# Altium schematic symbol library kmilo17pet-NSC_Switcher.SchLib: 2226 symbols (part 51 of 59)
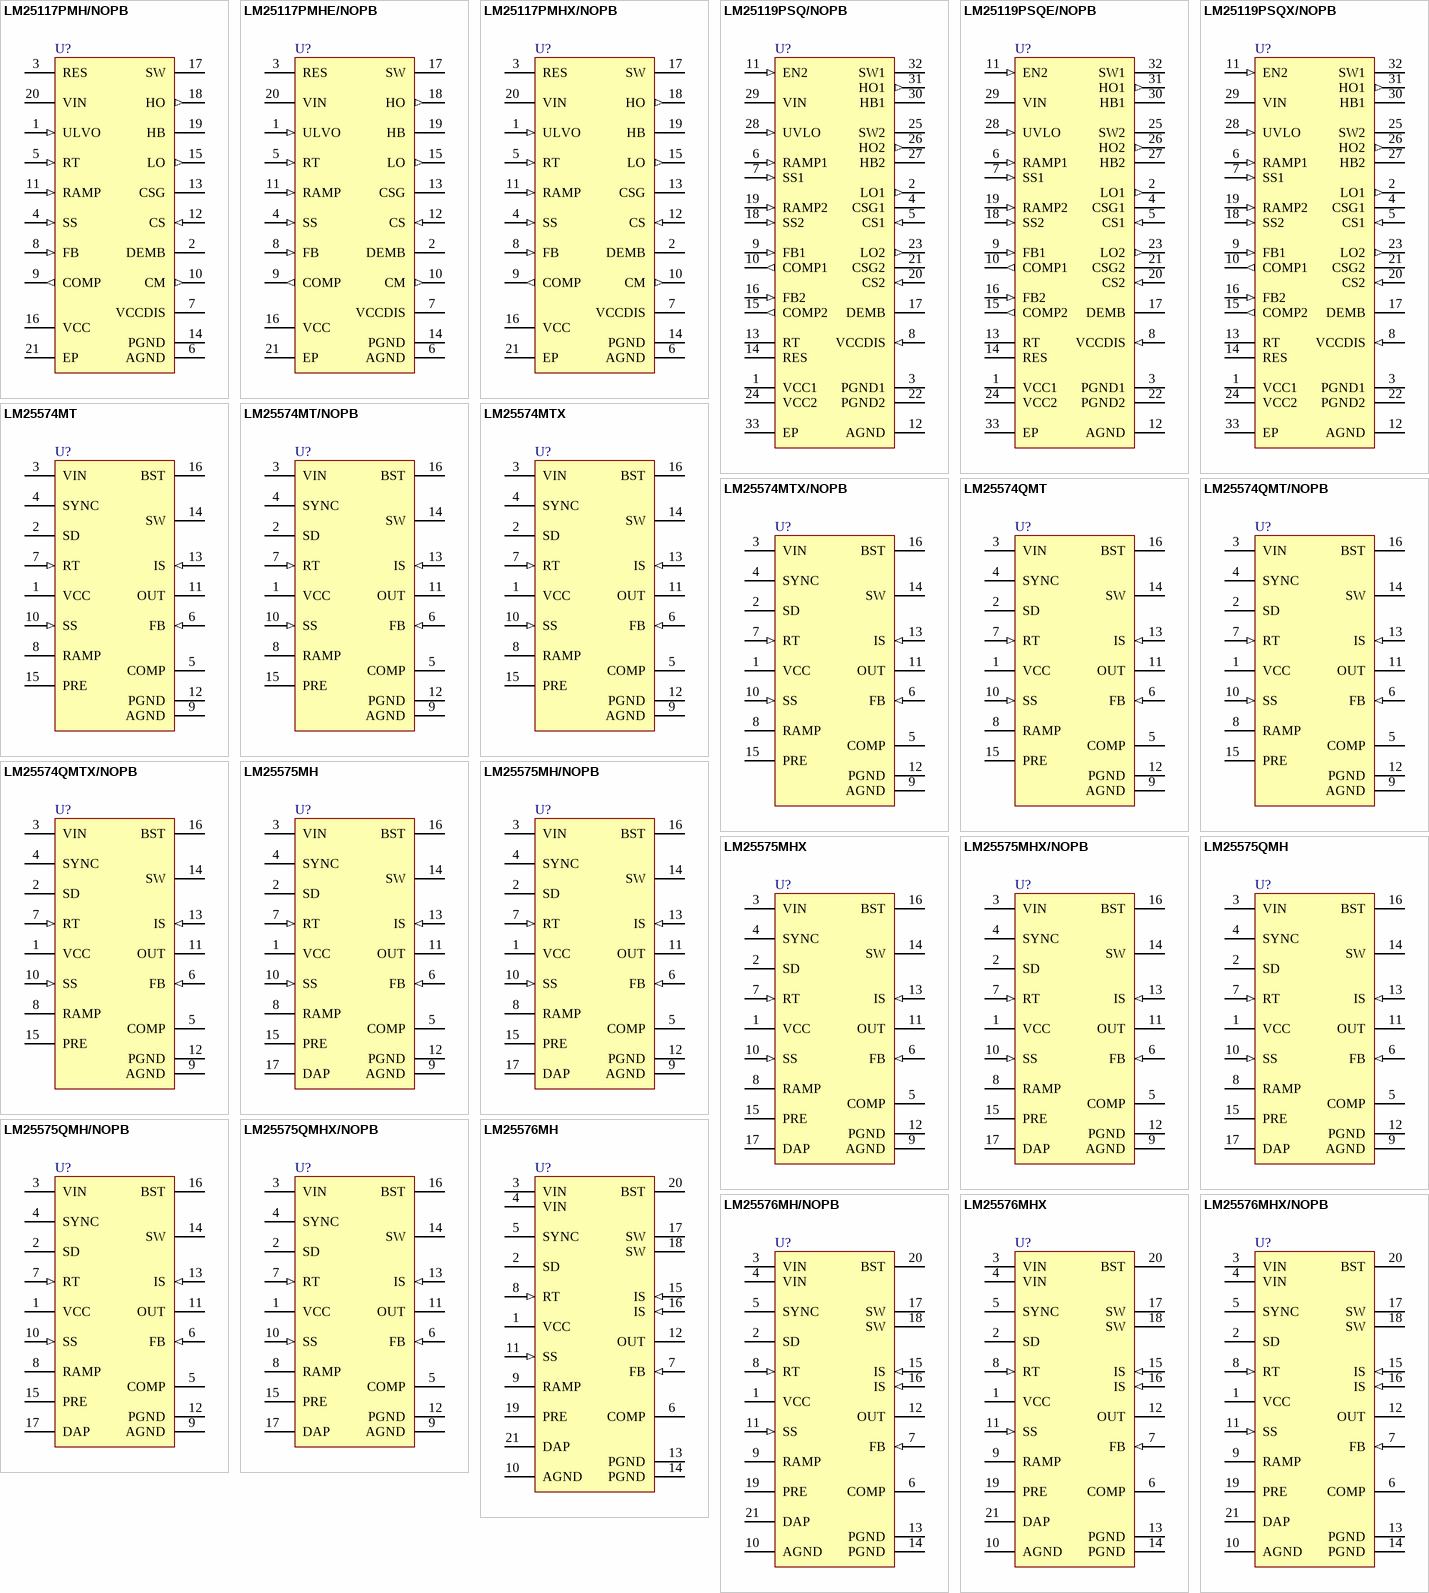
[diagram p119: symbols LM25117PMH/NOPB to LM25576MHX/NOPB]

## LM25574MTX/NOPB
designator U?
SIMPLE SWITCHER® 42V, 0.5A Step-Down Switching Regulator, 16-pin TSSOP, Pb-Free; PartNumber: LM25574MTX/NOPB; Manufacturer: National Semiconductor; PackageTopMarking: NSUZXYTT*L25574*MT; PowerWise: Y; DatasheetVersion: Mar-2009; PackageVersion: revD, Jun-2003; PackageReference: MTC16; PackageDescription: Molded TSSOP, Jedec, 5 x 4.4 x 0.9mm Body, 16 Lead, 0.65mm Pitch; RoHS: Y; PinCount: 16; CompType: Switcher; High-Reliability: Y; Code_JEDEC: MO-153-AB; ComponentLink1Description: Manufacturer URL; ComponentLink1URL: http://www.national.com/; ComponentLink2Description: LM25574 Datasheet; ComponentLink2URL: http://www.national.com/ds/LM/LM25574.pdf; ComponentLink3Description: LM25574 Web Page; ComponentLink3URL: http://www.national.com/pf/LM/LM25574.html; ComponentLink4Description: MTC16 Package Page; ComponentLink4URL: http://www.national.com/packaging/folders/mtc16.html
footprint MTC16_N (TSOP, 16-Leads, Body 5x4.4mm, Pitch 0.65mm, IPC Medium Density)
footprint MTC16_L (TSOP, 16-Leads, Body 5x4.4mm, Pitch 0.65mm, IPC High Density)
footprint MTC16_M (TSOP, 16-Leads, Body 5x4.4mm, Pitch 0.65mm, IPC Low Density)
pins: 1 VCC (power), 2 SD, 3 VIN (power), 4 SYNC, 5 COMP, 6 FB (in), 7 RT (in), 8 RAMP, 9 AGND (power), 10 SS (in), 11 OUT (power), 12 PGND (power), 13 IS (in), 14 SW (power), 15 PRE (oc), 16 BST

## LM25574QMT
designator U?
SIMPLE SWITCHER® 42V, 0.5A Step-Down Switching Regulator, 16-pin TSSOP; PartNumber: LM25574QMT; Manufacturer: National Semiconductor; PackageTopMarking: NSUZXYTT*L25574*QMT; PowerWise: N; High-Reliability: Y; DatasheetVersion: Mar-2009; PackageVersion: revD, Jun-2003; PackageReference: MTC16; PackageDescription: Molded TSSOP, Jedec, 5 x 4.4 x 0.9mm Body, 16 Lead, 0.65mm Pitch; RoHS: Y; PinCount: 16; CompType: Switcher; Code_JEDEC: MO-153-AB; ComponentLink1Description: Manufacturer URL; ComponentLink1URL: http://www.national.com/; ComponentLink2Description: LM25574 Datasheet; ComponentLink2URL: http://www.national.com/ds/LM/LM25574.pdf; ComponentLink3Description: LM25574 Web Page; ComponentLink3URL: http://www.national.com/pf/LM/LM25574.html; ComponentLink4Description: MTC16 Package Page; ComponentLink4URL: http://www.national.com/packaging/folders/mtc16.html
footprint MTC16_N (TSOP, 16-Leads, Body 5x4.4mm, Pitch 0.65mm, IPC Medium Density)
footprint MTC16_L (TSOP, 16-Leads, Body 5x4.4mm, Pitch 0.65mm, IPC High Density)
footprint MTC16_M (TSOP, 16-Leads, Body 5x4.4mm, Pitch 0.65mm, IPC Low Density)
pins: 1 VCC (power), 2 SD, 3 VIN (power), 4 SYNC, 5 COMP, 6 FB (in), 7 RT (in), 8 RAMP, 9 AGND (power), 10 SS (in), 11 OUT (power), 12 PGND (power), 13 IS (in), 14 SW (power), 15 PRE (oc), 16 BST

## LM25574QMT/NOPB
designator U?
SIMPLE SWITCHER® 42V, 0.5A Step-Down Switching Regulator, 16-pin TSSOP, Pb-Free; PartNumber: LM25574QMT/NOPB; Manufacturer: National Semiconductor; PackageTopMarking: NSUZXYTT*L25574*QMT; PowerWise: N; High-Reliability: Y; DatasheetVersion: Mar-2009; PackageVersion: revD, Jun-2003; PackageReference: MTC16; PackageDescription: Molded TSSOP, Jedec, 5 x 4.4 x 0.9mm Body, 16 Lead, 0.65mm Pitch; RoHS: Y; PinCount: 16; CompType: Switcher; Code_JEDEC: MO-153-AB; ComponentLink1Description: Manufacturer URL; ComponentLink1URL: http://www.national.com/; ComponentLink2Description: LM25574 Datasheet; ComponentLink2URL: http://www.national.com/ds/LM/LM25574.pdf; ComponentLink3Description: LM25574 Web Page; ComponentLink3URL: http://www.national.com/pf/LM/LM25574.html; ComponentLink4Description: MTC16 Package Page; ComponentLink4URL: http://www.national.com/packaging/folders/mtc16.html
footprint MTC16_N (TSOP, 16-Leads, Body 5x4.4mm, Pitch 0.65mm, IPC Medium Density)
footprint MTC16_L (TSOP, 16-Leads, Body 5x4.4mm, Pitch 0.65mm, IPC High Density)
footprint MTC16_M (TSOP, 16-Leads, Body 5x4.4mm, Pitch 0.65mm, IPC Low Density)
pins: 1 VCC (power), 2 SD, 3 VIN (power), 4 SYNC, 5 COMP, 6 FB (in), 7 RT (in), 8 RAMP, 9 AGND (power), 10 SS (in), 11 OUT (power), 12 PGND (power), 13 IS (in), 14 SW (power), 15 PRE (oc), 16 BST

## LM25574QMTX/NOPB
designator U?
SIMPLE SWITCHER® 42V, 0.5A Step-Down Switching Regulator, 16-pin TSSOP, Pb-Free; PartNumber: LM25574QMTX/NOPB; Manufacturer: National Semiconductor; PackageTopMarking: NSUZXYTT*L25574*QMT; PowerWise: N; High-Reliability: Y; DatasheetVersion: Mar-2009; PackageVersion: revD, Jun-2003; PackageReference: MTC16; PackageDescription: Molded TSSOP, Jedec, 5 x 4.4 x 0.9mm Body, 16 Lead, 0.65mm Pitch; RoHS: Y; PinCount: 16; CompType: Switcher; Code_JEDEC: MO-153-AB; ComponentLink1Description: Manufacturer URL; ComponentLink1URL: http://www.national.com/; ComponentLink2Description: LM25574 Datasheet; ComponentLink2URL: http://www.national.com/ds/LM/LM25574.pdf; ComponentLink3Description: LM25574 Web Page; ComponentLink3URL: http://www.national.com/pf/LM/LM25574.html; ComponentLink4Description: MTC16 Package Page; ComponentLink4URL: http://www.national.com/packaging/folders/mtc16.html
footprint MTC16_N (TSOP, 16-Leads, Body 5x4.4mm, Pitch 0.65mm, IPC Medium Density)
footprint MTC16_L (TSOP, 16-Leads, Body 5x4.4mm, Pitch 0.65mm, IPC High Density)
footprint MTC16_M (TSOP, 16-Leads, Body 5x4.4mm, Pitch 0.65mm, IPC Low Density)
pins: 1 VCC (power), 2 SD, 3 VIN (power), 4 SYNC, 5 COMP, 6 FB (in), 7 RT (in), 8 RAMP, 9 AGND (power), 10 SS (in), 11 OUT (power), 12 PGND (power), 13 IS (in), 14 SW (power), 15 PRE (oc), 16 BST

## LM25575MH
designator U?
SIMPLE SWITCHER® 42V, 1.5A Step-Down Switching Regulator, 16-pin TSSOP-EP; PartNumber: LM25575MH; Manufacturer: National Semiconductor; PackageTopMarking: NSUZXYTT*L25575*MH; PowerWise: Y; DatasheetVersion: Mar-2009; PackageVersion: revA, Apr-2003; PackageReference: MXA16A; PackageDescription: Molded TSSOP, Jedec, Exposed Pad, 5.0 x 4.4 x 0.9mm Body,16 Lead, 0.65mm Pitch; RoHS: N; PinCount: 16; CompType: Switcher; High-Reliability: Y; Code_JEDEC: MO-153-ABT; ComponentLink1Description: Manufacturer URL; ComponentLink1URL: http://www.national.com/; ComponentLink2Description: LM25575 Datasheet; ComponentLink2URL: http://www.national.com/ds/LM/LM25575.pdf; ComponentLink3Description: LM25575 Web Page; ComponentLink3URL: http://www.national.com/pf/LM/LM25575.html; ComponentLink4Description: MXA16A Package Page; ComponentLink4URL: http://www.national.com/packaging/folders/mxa16a.html
footprint MXA16A_N (TSOP, 16-Leads, Body 5x4.4mm, Pitch 0.65mm, Thermal Pad, IPC Medium Density)
footprint MXA16A_L (TSOP, 16-Leads, Body 5x4.4mm, Pitch 0.65mm, Thermal Pad, IPC High Density)
footprint MXA16A_M (TSOP, 16-Leads, Body 5x4.4mm, Pitch 0.65mm, Thermal Pad, IPC Low Density)
pins: 1 VCC (power), 2 SD, 3 VIN (power), 4 SYNC, 5 COMP, 6 FB (in), 7 RT (in), 8 RAMP, 9 AGND (power), 10 SS (in), 11 OUT (power), 12 PGND (power), 13 IS (in), 14 SW (power), 15 PRE (oc), 16 BST, 17 DAP (power)

## LM25575MH/NOPB
designator U?
SIMPLE SWITCHER® 42V, 1.5A Step-Down Switching Regulator, 16-pin TSSOP-EP, Pb-Free; PartNumber: LM25575MH/NOPB; Manufacturer: National Semiconductor; PackageTopMarking: NSUZXYTT*L25575*MH; PowerWise: Y; DatasheetVersion: Mar-2009; PackageVersion: revA, Apr-2003; PackageReference: MXA16A; PackageDescription: Molded TSSOP, Jedec, Exposed Pad, 5.0 x 4.4 x 0.9mm Body,16 Lead, 0.65mm Pitch; RoHS: Y; PinCount: 16; CompType: Switcher; High-Reliability: Y; Code_JEDEC: MO-153-ABT; ComponentLink1Description: Manufacturer URL; ComponentLink1URL: http://www.national.com/; ComponentLink2Description: LM25575 Datasheet; ComponentLink2URL: http://www.national.com/ds/LM/LM25575.pdf; ComponentLink3Description: LM25575 Web Page; ComponentLink3URL: http://www.national.com/pf/LM/LM25575.html; ComponentLink4Description: MXA16A Package Page; ComponentLink4URL: http://www.national.com/packaging/folders/mxa16a.html
footprint MXA16A_N (TSOP, 16-Leads, Body 5x4.4mm, Pitch 0.65mm, Thermal Pad, IPC Medium Density)
footprint MXA16A_L (TSOP, 16-Leads, Body 5x4.4mm, Pitch 0.65mm, Thermal Pad, IPC High Density)
footprint MXA16A_M (TSOP, 16-Leads, Body 5x4.4mm, Pitch 0.65mm, Thermal Pad, IPC Low Density)
pins: 1 VCC (power), 2 SD, 3 VIN (power), 4 SYNC, 5 COMP, 6 FB (in), 7 RT (in), 8 RAMP, 9 AGND (power), 10 SS (in), 11 OUT (power), 12 PGND (power), 13 IS (in), 14 SW (power), 15 PRE (oc), 16 BST, 17 DAP (power)

## LM25575MHX
designator U?
SIMPLE SWITCHER® 42V, 1.5A Step-Down Switching Regulator, 16-pin TSSOP-EP; PartNumber: LM25575MHX; Manufacturer: National Semiconductor; PackageTopMarking: NSUZXYTT*L25575*MH; PowerWise: Y; DatasheetVersion: Mar-2009; PackageVersion: revA, Apr-2003; PackageReference: MXA16A; PackageDescription: Molded TSSOP, Jedec, Exposed Pad, 5.0 x 4.4 x 0.9mm Body,16 Lead, 0.65mm Pitch; RoHS: N; PinCount: 16; CompType: Switcher; High-Reliability: Y; Code_JEDEC: MO-153-ABT; ComponentLink1Description: Manufacturer URL; ComponentLink1URL: http://www.national.com/; ComponentLink2Description: LM25575 Datasheet; ComponentLink2URL: http://www.national.com/ds/LM/LM25575.pdf; ComponentLink3Description: LM25575 Web Page; ComponentLink3URL: http://www.national.com/pf/LM/LM25575.html; ComponentLink4Description: MXA16A Package Page; ComponentLink4URL: http://www.national.com/packaging/folders/mxa16a.html
footprint MXA16A_N (TSOP, 16-Leads, Body 5x4.4mm, Pitch 0.65mm, Thermal Pad, IPC Medium Density)
footprint MXA16A_L (TSOP, 16-Leads, Body 5x4.4mm, Pitch 0.65mm, Thermal Pad, IPC High Density)
footprint MXA16A_M (TSOP, 16-Leads, Body 5x4.4mm, Pitch 0.65mm, Thermal Pad, IPC Low Density)
pins: 1 VCC (power), 2 SD, 3 VIN (power), 4 SYNC, 5 COMP, 6 FB (in), 7 RT (in), 8 RAMP, 9 AGND (power), 10 SS (in), 11 OUT (power), 12 PGND (power), 13 IS (in), 14 SW (power), 15 PRE (oc), 16 BST, 17 DAP (power)

## LM25575MHX/NOPB
designator U?
SIMPLE SWITCHER® 42V, 1.5A Step-Down Switching Regulator, 16-pin TSSOP-EP, Pb-Free; PartNumber: LM25575MHX/NOPB; Manufacturer: National Semiconductor; PackageTopMarking: NSUZXYTT*L25575*MH; PowerWise: Y; DatasheetVersion: Mar-2009; PackageVersion: revA, Apr-2003; PackageReference: MXA16A; PackageDescription: Molded TSSOP, Jedec, Exposed Pad, 5.0 x 4.4 x 0.9mm Body,16 Lead, 0.65mm Pitch; RoHS: Y; PinCount: 16; CompType: Switcher; High-Reliability: Y; Code_JEDEC: MO-153-ABT; ComponentLink1Description: Manufacturer URL; ComponentLink1URL: http://www.national.com/; ComponentLink2Description: LM25575 Datasheet; ComponentLink2URL: http://www.national.com/ds/LM/LM25575.pdf; ComponentLink3Description: LM25575 Web Page; ComponentLink3URL: http://www.national.com/pf/LM/LM25575.html; ComponentLink4Description: MXA16A Package Page; ComponentLink4URL: http://www.national.com/packaging/folders/mxa16a.html
footprint MXA16A_N (TSOP, 16-Leads, Body 5x4.4mm, Pitch 0.65mm, Thermal Pad, IPC Medium Density)
footprint MXA16A_L (TSOP, 16-Leads, Body 5x4.4mm, Pitch 0.65mm, Thermal Pad, IPC High Density)
footprint MXA16A_M (TSOP, 16-Leads, Body 5x4.4mm, Pitch 0.65mm, Thermal Pad, IPC Low Density)
pins: 1 VCC (power), 2 SD, 3 VIN (power), 4 SYNC, 5 COMP, 6 FB (in), 7 RT (in), 8 RAMP, 9 AGND (power), 10 SS (in), 11 OUT (power), 12 PGND (power), 13 IS (in), 14 SW (power), 15 PRE (oc), 16 BST, 17 DAP (power)

## LM25575QMH
designator U?
SIMPLE SWITCHER® 42V, 1.5A Step-Down Switching Regulator, 16-pin TSSOP-EP; PartNumber: LM25575QMH; Manufacturer: National Semiconductor; PackageTopMarking: NSUZXYTT*L25575*QMH; PowerWise: N; High-Reliability: Y; DatasheetVersion: Mar-2009; PackageVersion: revA, Apr-2003; PackageReference: MXA16A; PackageDescription: Molded TSSOP, Jedec, Exposed Pad, 5.0 x 4.4 x 0.9mm Body,16 Lead, 0.65mm Pitch; RoHS: Y; PinCount: 16; CompType: Switcher; Code_JEDEC: MO-153-ABT; ComponentLink1Description: Manufacturer URL; ComponentLink1URL: http://www.national.com/; ComponentLink2Description: LM25575 Datasheet; ComponentLink2URL: http://www.national.com/ds/LM/LM25575.pdf; ComponentLink3Description: LM25575 Web Page; ComponentLink3URL: http://www.national.com/pf/LM/LM25575.html; ComponentLink4Description: MXA16A Package Page; ComponentLink4URL: http://www.national.com/packaging/folders/mxa16a.html
footprint MXA16A_N (TSOP, 16-Leads, Body 5x4.4mm, Pitch 0.65mm, Thermal Pad, IPC Medium Density)
footprint MXA16A_L (TSOP, 16-Leads, Body 5x4.4mm, Pitch 0.65mm, Thermal Pad, IPC High Density)
footprint MXA16A_M (TSOP, 16-Leads, Body 5x4.4mm, Pitch 0.65mm, Thermal Pad, IPC Low Density)
pins: 1 VCC (power), 2 SD, 3 VIN (power), 4 SYNC, 5 COMP, 6 FB (in), 7 RT (in), 8 RAMP, 9 AGND (power), 10 SS (in), 11 OUT (power), 12 PGND (power), 13 IS (in), 14 SW (power), 15 PRE (oc), 16 BST, 17 DAP (power)

## LM25575QMH/NOPB
designator U?
SIMPLE SWITCHER® 42V, 1.5A Step-Down Switching Regulator, 16-pin TSSOP-EP, Pb-Free; PartNumber: LM25575QMH/NOPB; Manufacturer: National Semiconductor; PackageTopMarking: NSUZXYTT*L25575*QMH; PowerWise: N; High-Reliability: Y; DatasheetVersion: Mar-2009; PackageVersion: revA, Apr-2003; PackageReference: MXA16A; PackageDescription: Molded TSSOP, Jedec, Exposed Pad, 5.0 x 4.4 x 0.9mm Body,16 Lead, 0.65mm Pitch; RoHS: Y; PinCount: 16; CompType: Switcher; Code_JEDEC: MO-153-ABT; ComponentLink1Description: Manufacturer URL; ComponentLink1URL: http://www.national.com/; ComponentLink2Description: LM25575 Datasheet; ComponentLink2URL: http://www.national.com/ds/LM/LM25575.pdf; ComponentLink3Description: LM25575 Web Page; ComponentLink3URL: http://www.national.com/pf/LM/LM25575.html; ComponentLink4Description: MXA16A Package Page; ComponentLink4URL: http://www.national.com/packaging/folders/mxa16a.html
footprint MXA16A_N (TSOP, 16-Leads, Body 5x4.4mm, Pitch 0.65mm, Thermal Pad, IPC Medium Density)
footprint MXA16A_L (TSOP, 16-Leads, Body 5x4.4mm, Pitch 0.65mm, Thermal Pad, IPC High Density)
footprint MXA16A_M (TSOP, 16-Leads, Body 5x4.4mm, Pitch 0.65mm, Thermal Pad, IPC Low Density)
pins: 1 VCC (power), 2 SD, 3 VIN (power), 4 SYNC, 5 COMP, 6 FB (in), 7 RT (in), 8 RAMP, 9 AGND (power), 10 SS (in), 11 OUT (power), 12 PGND (power), 13 IS (in), 14 SW (power), 15 PRE (oc), 16 BST, 17 DAP (power)

## LM25575QMHX/NOPB
designator U?
SIMPLE SWITCHER® 42V, 1.5A Step-Down Switching Regulator, 16-pin TSSOP-EP, Pb-Free; PartNumber: LM25575QMHX/NOPB; Manufacturer: National Semiconductor; PackageTopMarking: NSUZXYTT*L25575*QMH; PowerWise: N; High-Reliability: Y; DatasheetVersion: Mar-2009; PackageVersion: revA, Apr-2003; PackageReference: MXA16A; PackageDescription: Molded TSSOP, Jedec, Exposed Pad, 5.0 x 4.4 x 0.9mm Body,16 Lead, 0.65mm Pitch; RoHS: Y; PinCount: 16; CompType: Switcher; Code_JEDEC: MO-153-ABT; ComponentLink1Description: Manufacturer URL; ComponentLink1URL: http://www.national.com/; ComponentLink2Description: LM25575 Datasheet; ComponentLink2URL: http://www.national.com/ds/LM/LM25575.pdf; ComponentLink3Description: LM25575 Web Page; ComponentLink3URL: http://www.national.com/pf/LM/LM25575.html; ComponentLink4Description: MXA16A Package Page; ComponentLink4URL: http://www.national.com/packaging/folders/mxa16a.html
footprint MXA16A_N (TSOP, 16-Leads, Body 5x4.4mm, Pitch 0.65mm, Thermal Pad, IPC Medium Density)
footprint MXA16A_L (TSOP, 16-Leads, Body 5x4.4mm, Pitch 0.65mm, Thermal Pad, IPC High Density)
footprint MXA16A_M (TSOP, 16-Leads, Body 5x4.4mm, Pitch 0.65mm, Thermal Pad, IPC Low Density)
pins: 1 VCC (power), 2 SD, 3 VIN (power), 4 SYNC, 5 COMP, 6 FB (in), 7 RT (in), 8 RAMP, 9 AGND (power), 10 SS (in), 11 OUT (power), 12 PGND (power), 13 IS (in), 14 SW (power), 15 PRE (oc), 16 BST, 17 DAP (power)

## LM25576MH
designator U?
SIMPLE SWITCHER® 42V, 3A Step-Down Switching Regulator, 20-pin TSSOP-EP; PartNumber: LM25576MH; Manufacturer: National Semiconductor; PackageTopMarking: NSUZXYTT*LM25576*MH; PowerWise: Y; DatasheetVersion: Mar-2009; PackageVersion: revC, Jul-2006; PackageReference: MXA20A; PackageDescription: Molded TSSOP, Jedec, 6.5 x 4.4 x 0.9mm Body, 20 Lead, 0.65mm Pitch, Exposed Pad; RoHS: N; PinCount: 20; CompType: Switcher; High-Reliability: Y; Code_JEDEC: MO-153-ACT; ComponentLink1Description: Manufacturer URL; ComponentLink1URL: http://www.national.com/; ComponentLink2Description: LM25576 Datasheet; ComponentLink2URL: http://www.national.com/ds/LM/LM25576.pdf; ComponentLink3Description: LM25576 Web Page; ComponentLink3URL: http://www.national.com/pf/LM/LM25576.html; ComponentLink4Description: MXA20A Package Page; ComponentLink4URL: http://www.national.com/packaging/folders/mxa20a.html
footprint MXA20A_N (TSOP, 20-Leads, Body 6.5x4.4mm, Pitch 0.65mm, Thermal Pad, IPC Medium Density)
footprint MXA20A_L (TSOP, 20-Leads, Body 6.5x4.4mm, Pitch 0.65mm, Thermal Pad, IPC High Density)
footprint MXA20A_M (TSOP, 20-Leads, Body 6.5x4.4mm, Pitch 0.65mm, Thermal Pad, IPC Low Density)
pins: 1 VCC (power), 2 SD, 3 VIN (power), 4 VIN (power), 5 SYNC, 6 COMP, 7 FB (in), 8 RT (in), 9 RAMP, 10 AGND (power), 11 SS (in), 12 OUT (power), 13 PGND (power), 14 PGND (power), 15 IS (in), 16 IS (in), 17 SW (power), 18 SW (power), 19 PRE (oc), 20 BST, 21 DAP (power)

## LM25576MH/NOPB
designator U?
SIMPLE SWITCHER® 42V, 3A Step-Down Switching Regulator, 20-pin TSSOP-EP, Pb-Free; PartNumber: LM25576MH/NOPB; Manufacturer: National Semiconductor; PackageTopMarking: NSUZXYTT*LM25576*MH; PowerWise: Y; DatasheetVersion: Mar-2009; PackageVersion: revC, Jul-2006; PackageReference: MXA20A; PackageDescription: Molded TSSOP, Jedec, 6.5 x 4.4 x 0.9mm Body, 20 Lead, 0.65mm Pitch, Exposed Pad; RoHS: Y; PinCount: 20; CompType: Switcher; High-Reliability: Y; Code_JEDEC: MO-153-ACT; ComponentLink1Description: Manufacturer URL; ComponentLink1URL: http://www.national.com/; ComponentLink2Description: LM25576 Datasheet; ComponentLink2URL: http://www.national.com/ds/LM/LM25576.pdf; ComponentLink3Description: LM25576 Web Page; ComponentLink3URL: http://www.national.com/pf/LM/LM25576.html; ComponentLink4Description: MXA20A Package Page; ComponentLink4URL: http://www.national.com/packaging/folders/mxa20a.html
footprint MXA20A_N (TSOP, 20-Leads, Body 6.5x4.4mm, Pitch 0.65mm, Thermal Pad, IPC Medium Density)
footprint MXA20A_L (TSOP, 20-Leads, Body 6.5x4.4mm, Pitch 0.65mm, Thermal Pad, IPC High Density)
footprint MXA20A_M (TSOP, 20-Leads, Body 6.5x4.4mm, Pitch 0.65mm, Thermal Pad, IPC Low Density)
pins: 1 VCC (power), 2 SD, 3 VIN (power), 4 VIN (power), 5 SYNC, 6 COMP, 7 FB (in), 8 RT (in), 9 RAMP, 10 AGND (power), 11 SS (in), 12 OUT (power), 13 PGND (power), 14 PGND (power), 15 IS (in), 16 IS (in), 17 SW (power), 18 SW (power), 19 PRE (oc), 20 BST, 21 DAP (power)

## LM25576MHX
designator U?
SIMPLE SWITCHER® 42V, 3A Step-Down Switching Regulator, 20-pin TSSOP-EP; PartNumber: LM25576MHX; Manufacturer: National Semiconductor; PackageTopMarking: NSUZXYTT*LM25576*MH; PowerWise: Y; DatasheetVersion: Mar-2009; PackageVersion: revC, Jul-2006; PackageReference: MXA20A; PackageDescription: Molded TSSOP, Jedec, 6.5 x 4.4 x 0.9mm Body, 20 Lead, 0.65mm Pitch, Exposed Pad; RoHS: N; PinCount: 20; CompType: Switcher; High-Reliability: Y; Code_JEDEC: MO-153-ACT; ComponentLink1Description: Manufacturer URL; ComponentLink1URL: http://www.national.com/; ComponentLink2Description: LM25576 Datasheet; ComponentLink2URL: http://www.national.com/ds/LM/LM25576.pdf; ComponentLink3Description: LM25576 Web Page; ComponentLink3URL: http://www.national.com/pf/LM/LM25576.html; ComponentLink4Description: MXA20A Package Page; ComponentLink4URL: http://www.national.com/packaging/folders/mxa20a.html
footprint MXA20A_N (TSOP, 20-Leads, Body 6.5x4.4mm, Pitch 0.65mm, Thermal Pad, IPC Medium Density)
footprint MXA20A_L (TSOP, 20-Leads, Body 6.5x4.4mm, Pitch 0.65mm, Thermal Pad, IPC High Density)
footprint MXA20A_M (TSOP, 20-Leads, Body 6.5x4.4mm, Pitch 0.65mm, Thermal Pad, IPC Low Density)
pins: 1 VCC (power), 2 SD, 3 VIN (power), 4 VIN (power), 5 SYNC, 6 COMP, 7 FB (in), 8 RT (in), 9 RAMP, 10 AGND (power), 11 SS (in), 12 OUT (power), 13 PGND (power), 14 PGND (power), 15 IS (in), 16 IS (in), 17 SW (power), 18 SW (power), 19 PRE (oc), 20 BST, 21 DAP (power)

## LM25576MHX/NOPB
designator U?
SIMPLE SWITCHER® 42V, 3A Step-Down Switching Regulator, 20-pin TSSOP-EP, Pb-Free; PartNumber: LM25576MHX/NOPB; Manufacturer: National Semiconductor; PackageTopMarking: NSUZXYTT*LM25576*MH; PowerWise: Y; DatasheetVersion: Mar-2009; PackageVersion: revC, Jul-2006; PackageReference: MXA20A; PackageDescription: Molded TSSOP, Jedec, 6.5 x 4.4 x 0.9mm Body, 20 Lead, 0.65mm Pitch, Exposed Pad; RoHS: Y; PinCount: 20; CompType: Switcher; High-Reliability: Y; Code_JEDEC: MO-153-ACT; ComponentLink1Description: Manufacturer URL; ComponentLink1URL: http://www.national.com/; ComponentLink2Description: LM25576 Datasheet; ComponentLink2URL: http://www.national.com/ds/LM/LM25576.pdf; ComponentLink3Description: LM25576 Web Page; ComponentLink3URL: http://www.national.com/pf/LM/LM25576.html; ComponentLink4Description: MXA20A Package Page; ComponentLink4URL: http://www.national.com/packaging/folders/mxa20a.html
footprint MXA20A_N (TSOP, 20-Leads, Body 6.5x4.4mm, Pitch 0.65mm, Thermal Pad, IPC Medium Density)
footprint MXA20A_L (TSOP, 20-Leads, Body 6.5x4.4mm, Pitch 0.65mm, Thermal Pad, IPC High Density)
footprint MXA20A_M (TSOP, 20-Leads, Body 6.5x4.4mm, Pitch 0.65mm, Thermal Pad, IPC Low Density)
pins: 1 VCC (power), 2 SD, 3 VIN (power), 4 VIN (power), 5 SYNC, 6 COMP, 7 FB (in), 8 RT (in), 9 RAMP, 10 AGND (power), 11 SS (in), 12 OUT (power), 13 PGND (power), 14 PGND (power), 15 IS (in), 16 IS (in), 17 SW (power), 18 SW (power), 19 PRE (oc), 20 BST, 21 DAP (power)

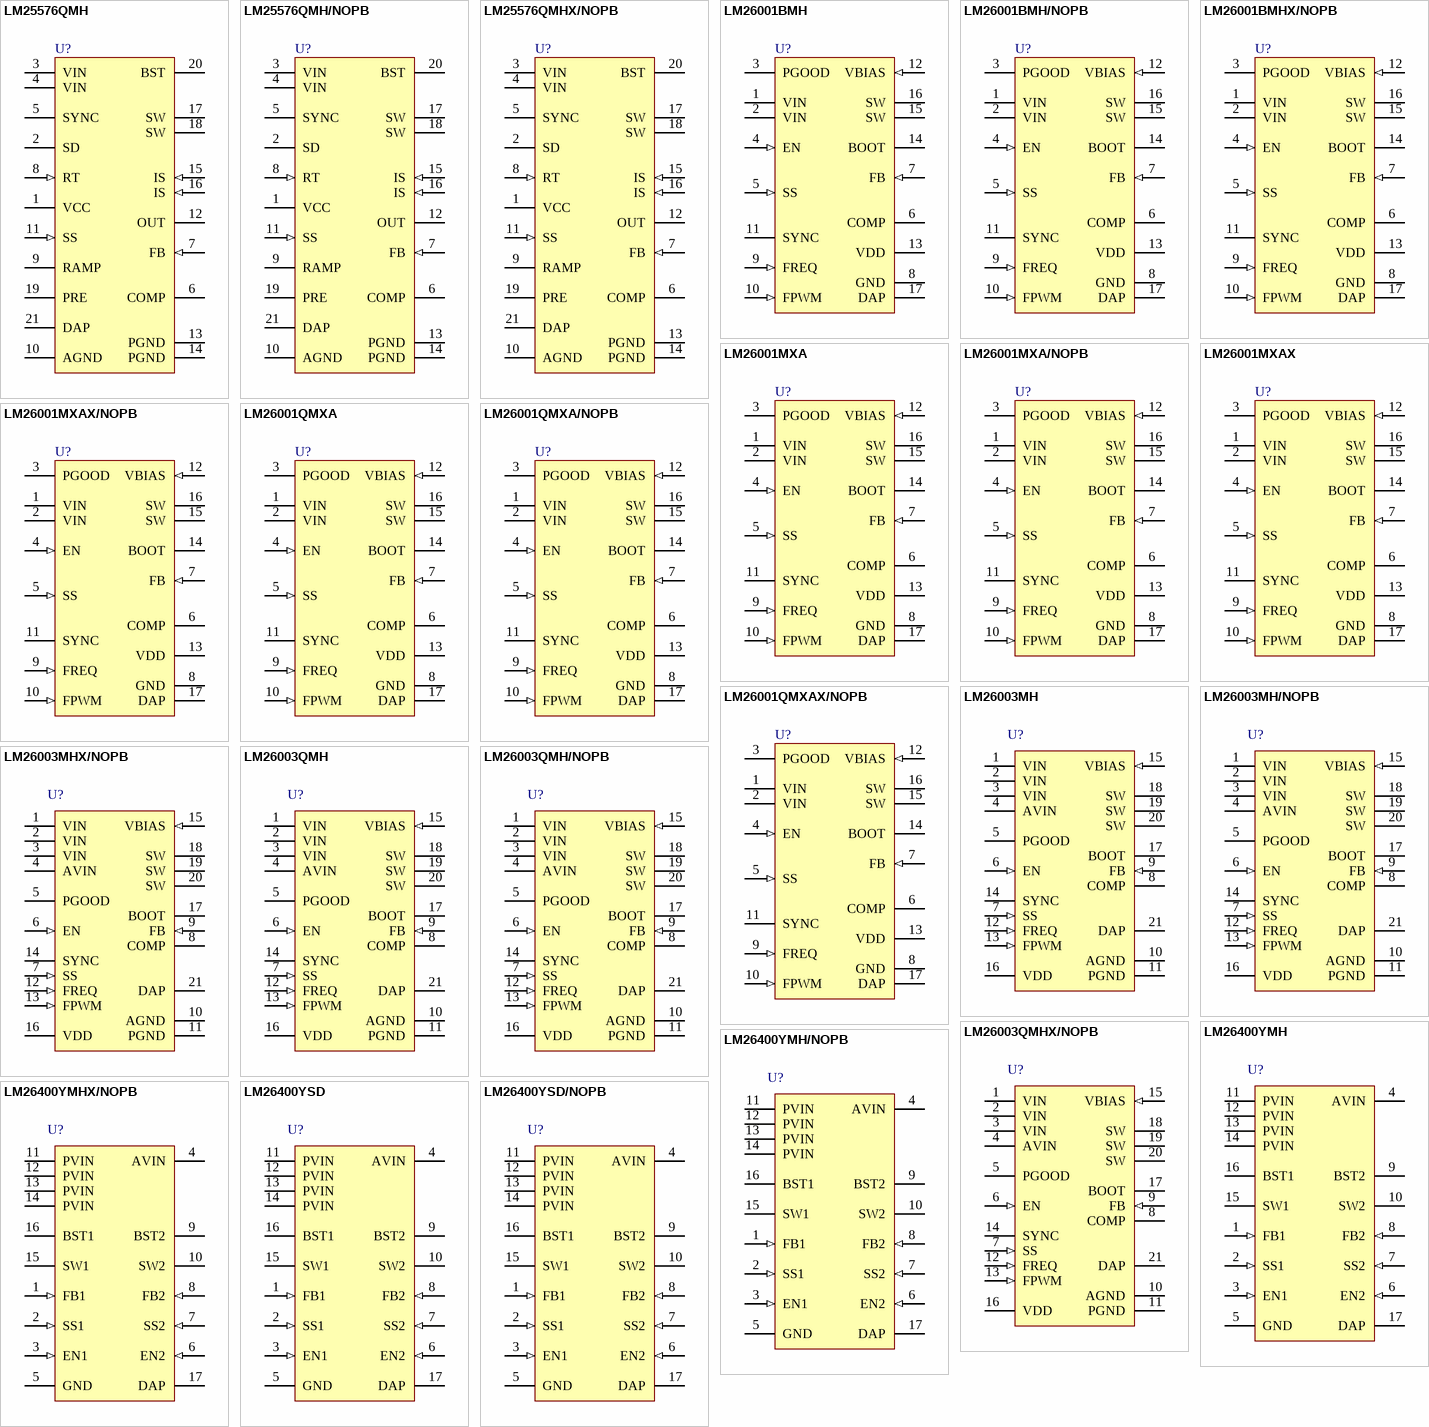
[diagram p58: symbols LM25576QMH to LM26400YSD/NOPB]

## LM25576QMH
designator U?
SIMPLE SWITCHER® 42V, 3A Step-Down Switching Regulator, 20-pin TSSOP-EP; PartNumber: LM25576QMH; Manufacturer: National Semiconductor; PackageTopMarking: NSUZXYTT*LM25576*QMH; PowerWise: N; High-Reliability: Y; DatasheetVersion: Mar-2009; PackageVersion: revC, Jul-2006; PackageReference: MXA20A; PackageDescription: Molded TSSOP, Jedec, 6.5 x 4.4 x 0.9mm Body, 20 Lead, 0.65mm Pitch, Exposed Pad; RoHS: Y; PinCount: 20; CompType: Switcher; Code_JEDEC: MO-153-ACT; ComponentLink1Description: Manufacturer URL; ComponentLink1URL: http://www.national.com/; ComponentLink2Description: LM25576 Datasheet; ComponentLink2URL: http://www.national.com/ds/LM/LM25576.pdf; ComponentLink3Description: LM25576 Web Page; ComponentLink3URL: http://www.national.com/pf/LM/LM25576.html; ComponentLink4Description: MXA20A Package Page; ComponentLink4URL: http://www.national.com/packaging/folders/mxa20a.html
footprint MXA20A_N (TSOP, 20-Leads, Body 6.5x4.4mm, Pitch 0.65mm, Thermal Pad, IPC Medium Density)
footprint MXA20A_L (TSOP, 20-Leads, Body 6.5x4.4mm, Pitch 0.65mm, Thermal Pad, IPC High Density)
footprint MXA20A_M (TSOP, 20-Leads, Body 6.5x4.4mm, Pitch 0.65mm, Thermal Pad, IPC Low Density)
pins: 1 VCC (power), 2 SD, 3 VIN (power), 4 VIN (power), 5 SYNC, 6 COMP, 7 FB (in), 8 RT (in), 9 RAMP, 10 AGND (power), 11 SS (in), 12 OUT (power), 13 PGND (power), 14 PGND (power), 15 IS (in), 16 IS (in), 17 SW (power), 18 SW (power), 19 PRE (oc), 20 BST, 21 DAP (power)

## LM25576QMH/NOPB
designator U?
SIMPLE SWITCHER® 42V, 3A Step-Down Switching Regulator, 20-pin TSSOP-EP, Pb-Free; PartNumber: LM25576QMH/NOPB; Manufacturer: National Semiconductor; PackageTopMarking: NSUZXYTT*LM25576*QMH; PowerWise: N; High-Reliability: Y; DatasheetVersion: Mar-2009; PackageVersion: revC, Jul-2006; PackageReference: MXA20A; PackageDescription: Molded TSSOP, Jedec, 6.5 x 4.4 x 0.9mm Body, 20 Lead, 0.65mm Pitch, Exposed Pad; RoHS: Y; PinCount: 20; CompType: Switcher; Code_JEDEC: MO-153-ACT; ComponentLink1Description: Manufacturer URL; ComponentLink1URL: http://www.national.com/; ComponentLink2Description: LM25576 Datasheet; ComponentLink2URL: http://www.national.com/ds/LM/LM25576.pdf; ComponentLink3Description: LM25576 Web Page; ComponentLink3URL: http://www.national.com/pf/LM/LM25576.html; ComponentLink4Description: MXA20A Package Page; ComponentLink4URL: http://www.national.com/packaging/folders/mxa20a.html
footprint MXA20A_N (TSOP, 20-Leads, Body 6.5x4.4mm, Pitch 0.65mm, Thermal Pad, IPC Medium Density)
footprint MXA20A_L (TSOP, 20-Leads, Body 6.5x4.4mm, Pitch 0.65mm, Thermal Pad, IPC High Density)
footprint MXA20A_M (TSOP, 20-Leads, Body 6.5x4.4mm, Pitch 0.65mm, Thermal Pad, IPC Low Density)
pins: 1 VCC (power), 2 SD, 3 VIN (power), 4 VIN (power), 5 SYNC, 6 COMP, 7 FB (in), 8 RT (in), 9 RAMP, 10 AGND (power), 11 SS (in), 12 OUT (power), 13 PGND (power), 14 PGND (power), 15 IS (in), 16 IS (in), 17 SW (power), 18 SW (power), 19 PRE (oc), 20 BST, 21 DAP (power)

## LM25576QMHX/NOPB
designator U?
SIMPLE SWITCHER® 42V, 3A Step-Down Switching Regulator, 20-pin TSSOP-EP, Pb-Free; PartNumber: LM25576QMHX/NOPB; Manufacturer: National Semiconductor; PackageTopMarking: NSUZXYTT*LM25576*QMH; PowerWise: N; High-Reliability: Y; DatasheetVersion: Mar-2009; PackageVersion: revC, Jul-2006; PackageReference: MXA20A; PackageDescription: Molded TSSOP, Jedec, 6.5 x 4.4 x 0.9mm Body, 20 Lead, 0.65mm Pitch, Exposed Pad; RoHS: Y; PinCount: 20; CompType: Switcher; Code_JEDEC: MO-153-ACT; ComponentLink1Description: Manufacturer URL; ComponentLink1URL: http://www.national.com/; ComponentLink2Description: LM25576 Datasheet; ComponentLink2URL: http://www.national.com/ds/LM/LM25576.pdf; ComponentLink3Description: LM25576 Web Page; ComponentLink3URL: http://www.national.com/pf/LM/LM25576.html; ComponentLink4Description: MXA20A Package Page; ComponentLink4URL: http://www.national.com/packaging/folders/mxa20a.html
footprint MXA20A_N (TSOP, 20-Leads, Body 6.5x4.4mm, Pitch 0.65mm, Thermal Pad, IPC Medium Density)
footprint MXA20A_L (TSOP, 20-Leads, Body 6.5x4.4mm, Pitch 0.65mm, Thermal Pad, IPC High Density)
footprint MXA20A_M (TSOP, 20-Leads, Body 6.5x4.4mm, Pitch 0.65mm, Thermal Pad, IPC Low Density)
pins: 1 VCC (power), 2 SD, 3 VIN (power), 4 VIN (power), 5 SYNC, 6 COMP, 7 FB (in), 8 RT (in), 9 RAMP, 10 AGND (power), 11 SS (in), 12 OUT (power), 13 PGND (power), 14 PGND (power), 15 IS (in), 16 IS (in), 17 SW (power), 18 SW (power), 19 PRE (oc), 20 BST, 21 DAP (power)

## LM26001BMH
designator U?
1.5A Switching Regulator with High Efficiency Sleep Mode, 16-pin TSSOP-EP; PartNumber: LM26001BMH; Manufacturer: National Semiconductor; PackageTopMarking: NSUZXYTT*L26001*BMH; PowerWise: Y; CompType: Switcher; DatasheetVersion: May-2008; PackageVersion: revA, Apr-2003; PackageReference: MXA16A; PackageDescription: Molded TSSOP, Jedec, Exposed Pad, 5.0 x 4.4 x 0.9mm Body,16 Lead, 0.65mm Pitch; RoHS: Y; PinCount: 16; High-Reliability: Y; Code_JEDEC: MO-153-ABT; ComponentLink1Description: Manufacturer URL; ComponentLink1URL: http://www.national.com/; ComponentLink2Description: LM26001B Datasheet; ComponentLink2URL: http://www.national.com/ds/LM/LM26001B.pdf; ComponentLink3Description: LM26001B Web Page; ComponentLink3URL: http://www.national.com/pf/LM/LM26001B.html; ComponentLink4Description: MXA16A Package Page; ComponentLink4URL: http://www.national.com/packaging/folders/mxa16a.html
footprint MXA16A_N (TSOP, 16-Leads, Body 5x4.4mm, Pitch 0.65mm, Thermal Pad, IPC Medium Density)
footprint MXA16A_L (TSOP, 16-Leads, Body 5x4.4mm, Pitch 0.65mm, Thermal Pad, IPC High Density)
footprint MXA16A_M (TSOP, 16-Leads, Body 5x4.4mm, Pitch 0.65mm, Thermal Pad, IPC Low Density)
pins: 1 VIN (power), 2 VIN (power), 3 PGOOD (oc), 4 EN (in), 5 SS (in), 6 COMP, 7 FB (in), 8 GND (power), 9 FREQ (in), 10 FPWM (in), 11 SYNC, 12 VBIAS (in), 13 VDD (power), 14 BOOT, 15 SW (power), 16 SW (power), 17 DAP (power)

## LM26001BMH/NOPB
designator U?
1.5A Switching Regulator with High Efficiency Sleep Mode, 16-pin TSSOP-EP, Pb-Free; PartNumber: LM26001BMH/NOPB; Manufacturer: National Semiconductor; PackageTopMarking: NSUZXYTT*L26001*BMH; PowerWise: Y; CompType: Switcher; DatasheetVersion: May-2008; PackageVersion: revA, Apr-2003; PackageReference: MXA16A; PackageDescription: Molded TSSOP, Jedec, Exposed Pad, 5.0 x 4.4 x 0.9mm Body,16 Lead, 0.65mm Pitch; RoHS: Y; PinCount: 16; High-Reliability: Y; Code_JEDEC: MO-153-ABT; ComponentLink1Description: Manufacturer URL; ComponentLink1URL: http://www.national.com/; ComponentLink2Description: LM26001B Datasheet; ComponentLink2URL: http://www.national.com/ds/LM/LM26001B.pdf; ComponentLink3Description: LM26001B Web Page; ComponentLink3URL: http://www.national.com/pf/LM/LM26001B.html; ComponentLink4Description: MXA16A Package Page; ComponentLink4URL: http://www.national.com/packaging/folders/mxa16a.html
footprint MXA16A_N (TSOP, 16-Leads, Body 5x4.4mm, Pitch 0.65mm, Thermal Pad, IPC Medium Density)
footprint MXA16A_L (TSOP, 16-Leads, Body 5x4.4mm, Pitch 0.65mm, Thermal Pad, IPC High Density)
footprint MXA16A_M (TSOP, 16-Leads, Body 5x4.4mm, Pitch 0.65mm, Thermal Pad, IPC Low Density)
pins: 1 VIN (power), 2 VIN (power), 3 PGOOD (oc), 4 EN (in), 5 SS (in), 6 COMP, 7 FB (in), 8 GND (power), 9 FREQ (in), 10 FPWM (in), 11 SYNC, 12 VBIAS (in), 13 VDD (power), 14 BOOT, 15 SW (power), 16 SW (power), 17 DAP (power)

## LM26001BMHX/NOPB
designator U?
1.5A Switching Regulator with High Efficiency Sleep Mode, 16-pin TSSOP-EP, Pb-Free; PartNumber: LM26001BMHX/NOPB; Manufacturer: National Semiconductor; PackageTopMarking: NSUZXYTT*L26001*BMH; PowerWise: Y; CompType: Switcher; DatasheetVersion: May-2008; PackageVersion: revA, Apr-2003; PackageReference: MXA16A; PackageDescription: Molded TSSOP, Jedec, Exposed Pad, 5.0 x 4.4 x 0.9mm Body,16 Lead, 0.65mm Pitch; RoHS: Y; PinCount: 16; High-Reliability: Y; Code_JEDEC: MO-153-ABT; ComponentLink1Description: Manufacturer URL; ComponentLink1URL: http://www.national.com/; ComponentLink2Description: LM26001B Datasheet; ComponentLink2URL: http://www.national.com/ds/LM/LM26001B.pdf; ComponentLink3Description: LM26001B Web Page; ComponentLink3URL: http://www.national.com/pf/LM/LM26001B.html; ComponentLink4Description: MXA16A Package Page; ComponentLink4URL: http://www.national.com/packaging/folders/mxa16a.html
footprint MXA16A_N (TSOP, 16-Leads, Body 5x4.4mm, Pitch 0.65mm, Thermal Pad, IPC Medium Density)
footprint MXA16A_L (TSOP, 16-Leads, Body 5x4.4mm, Pitch 0.65mm, Thermal Pad, IPC High Density)
footprint MXA16A_M (TSOP, 16-Leads, Body 5x4.4mm, Pitch 0.65mm, Thermal Pad, IPC Low Density)
pins: 1 VIN (power), 2 VIN (power), 3 PGOOD (oc), 4 EN (in), 5 SS (in), 6 COMP, 7 FB (in), 8 GND (power), 9 FREQ (in), 10 FPWM (in), 11 SYNC, 12 VBIAS (in), 13 VDD (power), 14 BOOT, 15 SW (power), 16 SW (power), 17 DAP (power)

## LM26001MXA
designator U?
1.5A Switching Regulator with High Efficiency Sleep Mode, 16-pin TSSOP-EP; PartNumber: LM26001MXA; Manufacturer: National Semiconductor; PackageTopMarking: NSUZXYTT*L26001*MXA; PowerWise: Y; CompType: Switcher; DatasheetVersion: Apr-2009; PackageVersion: revA, Apr-2003; PackageReference: MXA16A; PackageDescription: Molded TSSOP, Jedec, Exposed Pad, 5.0 x 4.4 x 0.9mm Body,16 Lead, 0.65mm Pitch; RoHS: N; PinCount: 16; High-Reliability: Y; Code_JEDEC: MO-153-ABT; ComponentLink1Description: Manufacturer URL; ComponentLink1URL: http://www.national.com/; ComponentLink2Description: LM26001 Datasheet; ComponentLink2URL: http://www.national.com/ds/LM/LM26001.pdf; ComponentLink3Description: LM26001 Web Page; ComponentLink3URL: http://www.national.com/pf/LM/LM26001.html; ComponentLink4Description: MXA16A Package Page; ComponentLink4URL: http://www.national.com/packaging/folders/mxa16a.html
footprint MXA16A_N (TSOP, 16-Leads, Body 5x4.4mm, Pitch 0.65mm, Thermal Pad, IPC Medium Density)
footprint MXA16A_L (TSOP, 16-Leads, Body 5x4.4mm, Pitch 0.65mm, Thermal Pad, IPC High Density)
footprint MXA16A_M (TSOP, 16-Leads, Body 5x4.4mm, Pitch 0.65mm, Thermal Pad, IPC Low Density)
pins: 1 VIN (power), 2 VIN (power), 3 PGOOD (oc), 4 EN (in), 5 SS (in), 6 COMP, 7 FB (in), 8 GND (power), 9 FREQ (in), 10 FPWM (in), 11 SYNC, 12 VBIAS (in), 13 VDD (power), 14 BOOT, 15 SW (power), 16 SW (power), 17 DAP (power)

## LM26001MXA/NOPB
designator U?
1.5A Switching Regulator with High Efficiency Sleep Mode, 16-pin TSSOP-EP, Pb-Free; PartNumber: LM26001MXA/NOPB; Manufacturer: National Semiconductor; PackageTopMarking: NSUZXYTT*L26001*MXA; PowerWise: Y; CompType: Switcher; DatasheetVersion: Apr-2009; PackageVersion: revA, Apr-2003; PackageReference: MXA16A; PackageDescription: Molded TSSOP, Jedec, Exposed Pad, 5.0 x 4.4 x 0.9mm Body,16 Lead, 0.65mm Pitch; RoHS: Y; PinCount: 16; High-Reliability: Y; Code_JEDEC: MO-153-ABT; ComponentLink1Description: Manufacturer URL; ComponentLink1URL: http://www.national.com/; ComponentLink2Description: LM26001 Datasheet; ComponentLink2URL: http://www.national.com/ds/LM/LM26001.pdf; ComponentLink3Description: LM26001 Web Page; ComponentLink3URL: http://www.national.com/pf/LM/LM26001.html; ComponentLink4Description: MXA16A Package Page; ComponentLink4URL: http://www.national.com/packaging/folders/mxa16a.html
footprint MXA16A_N (TSOP, 16-Leads, Body 5x4.4mm, Pitch 0.65mm, Thermal Pad, IPC Medium Density)
footprint MXA16A_L (TSOP, 16-Leads, Body 5x4.4mm, Pitch 0.65mm, Thermal Pad, IPC High Density)
footprint MXA16A_M (TSOP, 16-Leads, Body 5x4.4mm, Pitch 0.65mm, Thermal Pad, IPC Low Density)
pins: 1 VIN (power), 2 VIN (power), 3 PGOOD (oc), 4 EN (in), 5 SS (in), 6 COMP, 7 FB (in), 8 GND (power), 9 FREQ (in), 10 FPWM (in), 11 SYNC, 12 VBIAS (in), 13 VDD (power), 14 BOOT, 15 SW (power), 16 SW (power), 17 DAP (power)

## LM26001MXAX
designator U?
1.5A Switching Regulator with High Efficiency Sleep Mode, 16-pin TSSOP-EP; PartNumber: LM26001MXAX; Manufacturer: National Semiconductor; PackageTopMarking: NSUZXYTT*L26001*MXA; PowerWise: Y; CompType: Switcher; DatasheetVersion: Apr-2009; PackageVersion: revA, Apr-2003; PackageReference: MXA16A; PackageDescription: Molded TSSOP, Jedec, Exposed Pad, 5.0 x 4.4 x 0.9mm Body,16 Lead, 0.65mm Pitch; RoHS: N; PinCount: 16; High-Reliability: Y; Code_JEDEC: MO-153-ABT; ComponentLink1Description: Manufacturer URL; ComponentLink1URL: http://www.national.com/; ComponentLink2Description: LM26001 Datasheet; ComponentLink2URL: http://www.national.com/ds/LM/LM26001.pdf; ComponentLink3Description: LM26001 Web Page; ComponentLink3URL: http://www.national.com/pf/LM/LM26001.html; ComponentLink4Description: MXA16A Package Page; ComponentLink4URL: http://www.national.com/packaging/folders/mxa16a.html
footprint MXA16A_N (TSOP, 16-Leads, Body 5x4.4mm, Pitch 0.65mm, Thermal Pad, IPC Medium Density)
footprint MXA16A_L (TSOP, 16-Leads, Body 5x4.4mm, Pitch 0.65mm, Thermal Pad, IPC High Density)
footprint MXA16A_M (TSOP, 16-Leads, Body 5x4.4mm, Pitch 0.65mm, Thermal Pad, IPC Low Density)
pins: 1 VIN (power), 2 VIN (power), 3 PGOOD (oc), 4 EN (in), 5 SS (in), 6 COMP, 7 FB (in), 8 GND (power), 9 FREQ (in), 10 FPWM (in), 11 SYNC, 12 VBIAS (in), 13 VDD (power), 14 BOOT, 15 SW (power), 16 SW (power), 17 DAP (power)

## LM26001MXAX/NOPB
designator U?
1.5A Switching Regulator with High Efficiency Sleep Mode, 16-pin TSSOP-EP, Pb-Free; PartNumber: LM26001MXAX/NOPB; Manufacturer: National Semiconductor; PackageTopMarking: NSUZXYTT*L26001*MXA; PowerWise: Y; CompType: Switcher; DatasheetVersion: Apr-2009; PackageVersion: revA, Apr-2003; PackageReference: MXA16A; PackageDescription: Molded TSSOP, Jedec, Exposed Pad, 5.0 x 4.4 x 0.9mm Body,16 Lead, 0.65mm Pitch; RoHS: Y; PinCount: 16; High-Reliability: Y; Code_JEDEC: MO-153-ABT; ComponentLink1Description: Manufacturer URL; ComponentLink1URL: http://www.national.com/; ComponentLink2Description: LM26001 Datasheet; ComponentLink2URL: http://www.national.com/ds/LM/LM26001.pdf; ComponentLink3Description: LM26001 Web Page; ComponentLink3URL: http://www.national.com/pf/LM/LM26001.html; ComponentLink4Description: MXA16A Package Page; ComponentLink4URL: http://www.national.com/packaging/folders/mxa16a.html
footprint MXA16A_N (TSOP, 16-Leads, Body 5x4.4mm, Pitch 0.65mm, Thermal Pad, IPC Medium Density)
footprint MXA16A_L (TSOP, 16-Leads, Body 5x4.4mm, Pitch 0.65mm, Thermal Pad, IPC High Density)
footprint MXA16A_M (TSOP, 16-Leads, Body 5x4.4mm, Pitch 0.65mm, Thermal Pad, IPC Low Density)
pins: 1 VIN (power), 2 VIN (power), 3 PGOOD (oc), 4 EN (in), 5 SS (in), 6 COMP, 7 FB (in), 8 GND (power), 9 FREQ (in), 10 FPWM (in), 11 SYNC, 12 VBIAS (in), 13 VDD (power), 14 BOOT, 15 SW (power), 16 SW (power), 17 DAP (power)

## LM26001QMXA
designator U?
1.5A Switching Regulator with High Efficiency Sleep Mode, 16-pin TSSOP-EP; PartNumber: LM26001QMXA; Manufacturer: National Semiconductor; PackageTopMarking: NSUZXYTT*L26001*QMXA; PowerWise: N; CompType: Switcher; High-Reliability: Y; DatasheetVersion: Apr-2009; PackageVersion: revA, Apr-2003; PackageReference: MXA16A; PackageDescription: Molded TSSOP, Jedec, Exposed Pad, 5.0 x 4.4 x 0.9mm Body,16 Lead, 0.65mm Pitch; RoHS: Y; PinCount: 16; Code_JEDEC: MO-153-ABT; ComponentLink1Description: Manufacturer URL; ComponentLink1URL: http://www.national.com/; ComponentLink2Description: LM26001 Datasheet; ComponentLink2URL: http://www.national.com/ds/LM/LM26001.pdf; ComponentLink3Description: LM26001 Web Page; ComponentLink3URL: http://www.national.com/pf/LM/LM26001.html; ComponentLink4Description: MXA16A Package Page; ComponentLink4URL: http://www.national.com/packaging/folders/mxa16a.html
footprint MXA16A_N (TSOP, 16-Leads, Body 5x4.4mm, Pitch 0.65mm, Thermal Pad, IPC Medium Density)
footprint MXA16A_L (TSOP, 16-Leads, Body 5x4.4mm, Pitch 0.65mm, Thermal Pad, IPC High Density)
footprint MXA16A_M (TSOP, 16-Leads, Body 5x4.4mm, Pitch 0.65mm, Thermal Pad, IPC Low Density)
pins: 1 VIN (power), 2 VIN (power), 3 PGOOD (oc), 4 EN (in), 5 SS (in), 6 COMP, 7 FB (in), 8 GND (power), 9 FREQ (in), 10 FPWM (in), 11 SYNC, 12 VBIAS (in), 13 VDD (power), 14 BOOT, 15 SW (power), 16 SW (power), 17 DAP (power)

## LM26001QMXA/NOPB
designator U?
1.5A Switching Regulator with High Efficiency Sleep Mode, 16-pin TSSOP-EP, Pb-Free; PartNumber: LM26001QMXA/NOPB; Manufacturer: National Semiconductor; PackageTopMarking: NSUZXYTT*L26001*QMXA; PowerWise: N; CompType: Switcher; High-Reliability: Y; DatasheetVersion: Apr-2009; PackageVersion: revA, Apr-2003; PackageReference: MXA16A; PackageDescription: Molded TSSOP, Jedec, Exposed Pad, 5.0 x 4.4 x 0.9mm Body,16 Lead, 0.65mm Pitch; RoHS: Y; PinCount: 16; Code_JEDEC: MO-153-ABT; ComponentLink1Description: Manufacturer URL; ComponentLink1URL: http://www.national.com/; ComponentLink2Description: LM26001 Datasheet; ComponentLink2URL: http://www.national.com/ds/LM/LM26001.pdf; ComponentLink3Description: LM26001 Web Page; ComponentLink3URL: http://www.national.com/pf/LM/LM26001.html; ComponentLink4Description: MXA16A Package Page; ComponentLink4URL: http://www.national.com/packaging/folders/mxa16a.html
footprint MXA16A_N (TSOP, 16-Leads, Body 5x4.4mm, Pitch 0.65mm, Thermal Pad, IPC Medium Density)
footprint MXA16A_L (TSOP, 16-Leads, Body 5x4.4mm, Pitch 0.65mm, Thermal Pad, IPC High Density)
footprint MXA16A_M (TSOP, 16-Leads, Body 5x4.4mm, Pitch 0.65mm, Thermal Pad, IPC Low Density)
pins: 1 VIN (power), 2 VIN (power), 3 PGOOD (oc), 4 EN (in), 5 SS (in), 6 COMP, 7 FB (in), 8 GND (power), 9 FREQ (in), 10 FPWM (in), 11 SYNC, 12 VBIAS (in), 13 VDD (power), 14 BOOT, 15 SW (power), 16 SW (power), 17 DAP (power)

## LM26001QMXAX/NOPB
designator U?
1.5A Switching Regulator with High Efficiency Sleep Mode, 16-pin TSSOP-EP, Pb-Free; PartNumber: LM26001QMXAX/NOPB; Manufacturer: National Semiconductor; PackageTopMarking: NSUZXYTT*L26001*QMXA; PowerWise: N; CompType: Switcher; High-Reliability: Y; DatasheetVersion: Apr-2009; PackageVersion: revA, Apr-2003; PackageReference: MXA16A; PackageDescription: Molded TSSOP, Jedec, Exposed Pad, 5.0 x 4.4 x 0.9mm Body,16 Lead, 0.65mm Pitch; RoHS: Y; PinCount: 16; Code_JEDEC: MO-153-ABT; ComponentLink1Description: Manufacturer URL; ComponentLink1URL: http://www.national.com/; ComponentLink2Description: LM26001 Datasheet; ComponentLink2URL: http://www.national.com/ds/LM/LM26001.pdf; ComponentLink3Description: LM26001 Web Page; ComponentLink3URL: http://www.national.com/pf/LM/LM26001.html; ComponentLink4Description: MXA16A Package Page; ComponentLink4URL: http://www.national.com/packaging/folders/mxa16a.html
footprint MXA16A_N (TSOP, 16-Leads, Body 5x4.4mm, Pitch 0.65mm, Thermal Pad, IPC Medium Density)
footprint MXA16A_L (TSOP, 16-Leads, Body 5x4.4mm, Pitch 0.65mm, Thermal Pad, IPC High Density)
footprint MXA16A_M (TSOP, 16-Leads, Body 5x4.4mm, Pitch 0.65mm, Thermal Pad, IPC Low Density)
pins: 1 VIN (power), 2 VIN (power), 3 PGOOD (oc), 4 EN (in), 5 SS (in), 6 COMP, 7 FB (in), 8 GND (power), 9 FREQ (in), 10 FPWM (in), 11 SYNC, 12 VBIAS (in), 13 VDD (power), 14 BOOT, 15 SW (power), 16 SW (power), 17 DAP (power)

## LM26003MH
designator U?
3A Switching Regulator with High Efficiency Sleep Mode, 20-pin TSSOP-EP; PartNumber: LM26003MH; Manufacturer: National Semiconductor; PackageTopMarking: NSUZXYTT*LM26003*MH; PowerWise: Y; CompType: Switcher; DatasheetVersion: Mar-2009; PackageVersion: revC, Jul-2006; PackageReference: MXA20A; PackageDescription: Molded TSSOP, Jedec, 6.5 x 4.4 x 0.9mm Body, 20 Lead, 0.65mm Pitch, Exposed Pad; RoHS: Y; PinCount: 20; High-Reliability: Y; Code_JEDEC: MO-153-ACT; ComponentLink1Description: Manufacturer URL; ComponentLink1URL: http://www.national.com/; ComponentLink2Description: LM26003 Datasheet; ComponentLink2URL: http://www.national.com/ds/LM/LM26003.pdf; ComponentLink3Description: LM26003 Web Page; ComponentLink3URL: http://www.national.com/pf/LM/LM26003.html; ComponentLink4Description: MXA20A Package Page; ComponentLink4URL: http://www.national.com/packaging/folders/mxa20a.html
footprint MXA20A_N (TSOP, 20-Leads, Body 6.5x4.4mm, Pitch 0.65mm, Thermal Pad, IPC Medium Density)
footprint MXA20A_L (TSOP, 20-Leads, Body 6.5x4.4mm, Pitch 0.65mm, Thermal Pad, IPC High Density)
footprint MXA20A_M (TSOP, 20-Leads, Body 6.5x4.4mm, Pitch 0.65mm, Thermal Pad, IPC Low Density)
pins: 1 VIN (power), 2 VIN (power), 3 VIN (power), 4 AVIN (power), 5 PGOOD (oc), 6 EN (in), 7 SS (in), 8 COMP, 9 FB (in), 10 AGND (power), 11 PGND (power), 12 FREQ (in), 13 FPWM (in), 14 SYNC, 15 VBIAS (in), 16 VDD (power), 17 BOOT, 18 SW (power), 19 SW (power), 20 SW (power), 21 DAP (power)

## LM26003MH/NOPB
designator U?
3A Switching Regulator with High Efficiency Sleep Mode, 20-pin TSSOP-EP, Pb-Free; PartNumber: LM26003MH/NOPB; Manufacturer: National Semiconductor; PackageTopMarking: NSUZXYTT*LM26003*MH; PowerWise: Y; CompType: Switcher; DatasheetVersion: Mar-2009; PackageVersion: revC, Jul-2006; PackageReference: MXA20A; PackageDescription: Molded TSSOP, Jedec, 6.5 x 4.4 x 0.9mm Body, 20 Lead, 0.65mm Pitch, Exposed Pad; RoHS: Y; PinCount: 20; High-Reliability: Y; Code_JEDEC: MO-153-ACT; ComponentLink1Description: Manufacturer URL; ComponentLink1URL: http://www.national.com/; ComponentLink2Description: LM26003 Datasheet; ComponentLink2URL: http://www.national.com/ds/LM/LM26003.pdf; ComponentLink3Description: LM26003 Web Page; ComponentLink3URL: http://www.national.com/pf/LM/LM26003.html; ComponentLink4Description: MXA20A Package Page; ComponentLink4URL: http://www.national.com/packaging/folders/mxa20a.html
footprint MXA20A_N (TSOP, 20-Leads, Body 6.5x4.4mm, Pitch 0.65mm, Thermal Pad, IPC Medium Density)
footprint MXA20A_L (TSOP, 20-Leads, Body 6.5x4.4mm, Pitch 0.65mm, Thermal Pad, IPC High Density)
footprint MXA20A_M (TSOP, 20-Leads, Body 6.5x4.4mm, Pitch 0.65mm, Thermal Pad, IPC Low Density)
pins: 1 VIN (power), 2 VIN (power), 3 VIN (power), 4 AVIN (power), 5 PGOOD (oc), 6 EN (in), 7 SS (in), 8 COMP, 9 FB (in), 10 AGND (power), 11 PGND (power), 12 FREQ (in), 13 FPWM (in), 14 SYNC, 15 VBIAS (in), 16 VDD (power), 17 BOOT, 18 SW (power), 19 SW (power), 20 SW (power), 21 DAP (power)

## LM26003MHX/NOPB
designator U?
3A Switching Regulator with High Efficiency Sleep Mode, 20-pin TSSOP-EP, Pb-Free; PartNumber: LM26003MHX/NOPB; Manufacturer: National Semiconductor; PackageTopMarking: NSUZXYTT*LM26003*MH; PowerWise: Y; CompType: Switcher; DatasheetVersion: Mar-2009; PackageVersion: revC, Jul-2006; PackageReference: MXA20A; PackageDescription: Molded TSSOP, Jedec, 6.5 x 4.4 x 0.9mm Body, 20 Lead, 0.65mm Pitch, Exposed Pad; RoHS: Y; PinCount: 20; High-Reliability: Y; Code_JEDEC: MO-153-ACT; ComponentLink1Description: Manufacturer URL; ComponentLink1URL: http://www.national.com/; ComponentLink2Description: LM26003 Datasheet; ComponentLink2URL: http://www.national.com/ds/LM/LM26003.pdf; ComponentLink3Description: LM26003 Web Page; ComponentLink3URL: http://www.national.com/pf/LM/LM26003.html; ComponentLink4Description: MXA20A Package Page; ComponentLink4URL: http://www.national.com/packaging/folders/mxa20a.html
footprint MXA20A_N (TSOP, 20-Leads, Body 6.5x4.4mm, Pitch 0.65mm, Thermal Pad, IPC Medium Density)
footprint MXA20A_L (TSOP, 20-Leads, Body 6.5x4.4mm, Pitch 0.65mm, Thermal Pad, IPC High Density)
footprint MXA20A_M (TSOP, 20-Leads, Body 6.5x4.4mm, Pitch 0.65mm, Thermal Pad, IPC Low Density)
pins: 1 VIN (power), 2 VIN (power), 3 VIN (power), 4 AVIN (power), 5 PGOOD (oc), 6 EN (in), 7 SS (in), 8 COMP, 9 FB (in), 10 AGND (power), 11 PGND (power), 12 FREQ (in), 13 FPWM (in), 14 SYNC, 15 VBIAS (in), 16 VDD (power), 17 BOOT, 18 SW (power), 19 SW (power), 20 SW (power), 21 DAP (power)

## LM26003QMH
designator U?
3A Switching Regulator with High Efficiency Sleep Mode, 20-pin TSSOP-EP; PartNumber: LM26003QMH; Manufacturer: National Semiconductor; PackageTopMarking: NSUZXYTT*LM26003*QMH; PowerWise: N; CompType: Switcher; High-Reliability: Y; DatasheetVersion: Mar-2009; PackageVersion: revC, Jul-2006; PackageReference: MXA20A; PackageDescription: Molded TSSOP, Jedec, 6.5 x 4.4 x 0.9mm Body, 20 Lead, 0.65mm Pitch, Exposed Pad; RoHS: Y; PinCount: 20; Code_JEDEC: MO-153-ACT; ComponentLink1Description: Manufacturer URL; ComponentLink1URL: http://www.national.com/; ComponentLink2Description: LM26003 Datasheet; ComponentLink2URL: http://www.national.com/ds/LM/LM26003.pdf; ComponentLink3Description: LM26003 Web Page; ComponentLink3URL: http://www.national.com/pf/LM/LM26003.html; ComponentLink4Description: MXA20A Package Page; ComponentLink4URL: http://www.national.com/packaging/folders/mxa20a.html
footprint MXA20A_N (TSOP, 20-Leads, Body 6.5x4.4mm, Pitch 0.65mm, Thermal Pad, IPC Medium Density)
footprint MXA20A_L (TSOP, 20-Leads, Body 6.5x4.4mm, Pitch 0.65mm, Thermal Pad, IPC High Density)
footprint MXA20A_M (TSOP, 20-Leads, Body 6.5x4.4mm, Pitch 0.65mm, Thermal Pad, IPC Low Density)
pins: 1 VIN (power), 2 VIN (power), 3 VIN (power), 4 AVIN (power), 5 PGOOD (oc), 6 EN (in), 7 SS (in), 8 COMP, 9 FB (in), 10 AGND (power), 11 PGND (power), 12 FREQ (in), 13 FPWM (in), 14 SYNC, 15 VBIAS (in), 16 VDD (power), 17 BOOT, 18 SW (power), 19 SW (power), 20 SW (power), 21 DAP (power)

## LM26003QMH/NOPB
designator U?
3A Switching Regulator with High Efficiency Sleep Mode, 20-pin TSSOP-EP, Pb-Free; PartNumber: LM26003QMH/NOPB; Manufacturer: National Semiconductor; PackageTopMarking: NSUZXYTT*LM26003*QMH; PowerWise: N; CompType: Switcher; High-Reliability: Y; DatasheetVersion: Mar-2009; PackageVersion: revC, Jul-2006; PackageReference: MXA20A; PackageDescription: Molded TSSOP, Jedec, 6.5 x 4.4 x 0.9mm Body, 20 Lead, 0.65mm Pitch, Exposed Pad; RoHS: Y; PinCount: 20; Code_JEDEC: MO-153-ACT; ComponentLink1Description: Manufacturer URL; ComponentLink1URL: http://www.national.com/; ComponentLink2Description: LM26003 Datasheet; ComponentLink2URL: http://www.national.com/ds/LM/LM26003.pdf; ComponentLink3Description: LM26003 Web Page; ComponentLink3URL: http://www.national.com/pf/LM/LM26003.html; ComponentLink4Description: MXA20A Package Page; ComponentLink4URL: http://www.national.com/packaging/folders/mxa20a.html
footprint MXA20A_N (TSOP, 20-Leads, Body 6.5x4.4mm, Pitch 0.65mm, Thermal Pad, IPC Medium Density)
footprint MXA20A_L (TSOP, 20-Leads, Body 6.5x4.4mm, Pitch 0.65mm, Thermal Pad, IPC High Density)
footprint MXA20A_M (TSOP, 20-Leads, Body 6.5x4.4mm, Pitch 0.65mm, Thermal Pad, IPC Low Density)
pins: 1 VIN (power), 2 VIN (power), 3 VIN (power), 4 AVIN (power), 5 PGOOD (oc), 6 EN (in), 7 SS (in), 8 COMP, 9 FB (in), 10 AGND (power), 11 PGND (power), 12 FREQ (in), 13 FPWM (in), 14 SYNC, 15 VBIAS (in), 16 VDD (power), 17 BOOT, 18 SW (power), 19 SW (power), 20 SW (power), 21 DAP (power)

## LM26003QMHX/NOPB
designator U?
3A Switching Regulator with High Efficiency Sleep Mode, 20-pin TSSOP-EP, Pb-Free; PartNumber: LM26003QMHX/NOPB; Manufacturer: National Semiconductor; PackageTopMarking: NSUZXYTT*LM26003*QMH; PowerWise: N; CompType: Switcher; High-Reliability: Y; DatasheetVersion: Mar-2009; PackageVersion: revC, Jul-2006; PackageReference: MXA20A; PackageDescription: Molded TSSOP, Jedec, 6.5 x 4.4 x 0.9mm Body, 20 Lead, 0.65mm Pitch, Exposed Pad; RoHS: Y; PinCount: 20; Code_JEDEC: MO-153-ACT; ComponentLink1Description: Manufacturer URL; ComponentLink1URL: http://www.national.com/; ComponentLink2Description: LM26003 Datasheet; ComponentLink2URL: http://www.national.com/ds/LM/LM26003.pdf; ComponentLink3Description: LM26003 Web Page; ComponentLink3URL: http://www.national.com/pf/LM/LM26003.html; ComponentLink4Description: MXA20A Package Page; ComponentLink4URL: http://www.national.com/packaging/folders/mxa20a.html
footprint MXA20A_N (TSOP, 20-Leads, Body 6.5x4.4mm, Pitch 0.65mm, Thermal Pad, IPC Medium Density)
footprint MXA20A_L (TSOP, 20-Leads, Body 6.5x4.4mm, Pitch 0.65mm, Thermal Pad, IPC High Density)
footprint MXA20A_M (TSOP, 20-Leads, Body 6.5x4.4mm, Pitch 0.65mm, Thermal Pad, IPC Low Density)
pins: 1 VIN (power), 2 VIN (power), 3 VIN (power), 4 AVIN (power), 5 PGOOD (oc), 6 EN (in), 7 SS (in), 8 COMP, 9 FB (in), 10 AGND (power), 11 PGND (power), 12 FREQ (in), 13 FPWM (in), 14 SYNC, 15 VBIAS (in), 16 VDD (power), 17 BOOT, 18 SW (power), 19 SW (power), 20 SW (power), 21 DAP (power)